# Altium schematic symbol library Schlib1.SchLib: 17 symbols
Pins are listed as number, name and electrical type; pins without a type are passive.

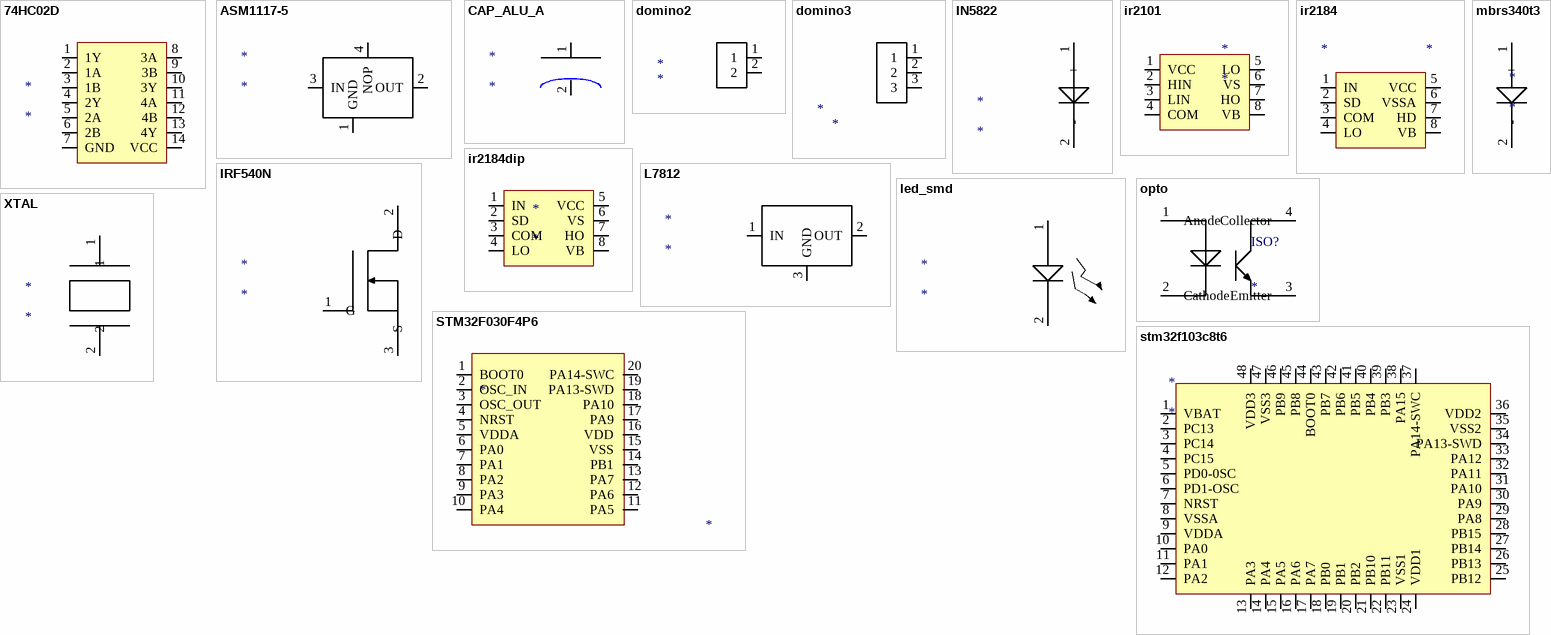
[diagram p0: symbols 74HC02D to XTAL]

## 74HC02D
designator *
footprint SOP14_Nor gate
pins: 1 1Y, 2 1A, 3 1B, 4 2Y, 5 2A, 6 2B, 7 GND, 8 3A, 9 3B, 10 3Y, 11 4A, 12 4B, 13 4Y, 14 VCC

## ASM1117-5
designator *
footprint SOT223 (SOT223, 4-Leads, Body 6.50x7.00mm (avg), Pitch 2.30mm, IPC Medium Density)
pins: 1 GND, 2 OUT, 3 IN, 4 NOP

## CAP_ALU_A
designator *
footprint cap_alu_a (Aluminum Electrolytic Capacitor, Body 3.30x3.30x29.00mm, IPC Low Density)
pins: 1 +, 2 -

## domino2
designator *
footprint Domino_2
pins: 1, 2

## domino3
designator *
footprint Domino_3
pins: 1, 2, 3

## IN5822
designator *
footprint schottky diode
pins: 1 +, 2 -

## ir2101
designator *
footprint ir2101
pins: 1 VCC, 2 HIN, 3 LIN, 4 COM, 5 LO, 6 VS, 7 HO, 8 VB

## ir2184
designator *
footprint SOP8_ir2184
pins: 1 IN, 2 SD, 3 COM, 4 LO, 5 VCC, 6 VSSA, 7 HD, 8 VB

## ir2184dip
designator *
footprint ir2101
pins: 1 IN, 2 SD, 3 COM, 4 LO, 5 VCC, 6 VS, 7 HO, 8 VB

## IRF540N
designator *
footprint TO220
pins: 1 G, 2 D, 3 S

## L7812
designator *
footprint TO220
pins: 1 IN, 2 OUT, 3 GND

## led_smd
designator *
footprint led_smd
pins: 1, 2

## mbrs340t3
designator *
footprint diode mbrs34ot3 (Chip Diode, 2-Leads, Body 7,94x5,84mm, IPC Medium Density)
pins: 1 +, 2 -

## opto
designator ISO?
footprint opto_smd
pins: 1 Anode, 2 Cathode, 3 Emitter, 4 Collector

## STM32F030F4P6
designator *
footprint TSSOP20_STM32 (TSOP, 20-Leads, Body 6.50x4.40mm, Pitch 0.65mm, IPC Medium Density)
pins: 1 BOOT0, 2 OSC_IN, 3 OSC_OUT, 4 NRST, 5 VDDA, 6 PA0, 7 PA1, 8 PA2, 9 PA3, 10 PA4, 11 PA5, 12 PA6, 13 PA7, 14 PB1, 15 VSS, 16 VDD, 17 PA9, 18 PA10, 19 PA13-SWD, 20 PA14-SWC

## stm32f103c8t6
designator *
footprint LQFP48_stm32 (TSQFP, 48-Leads, Body 7.00x7.00mm, Pitch 0.50mm, IPC Medium Density)
pins: 1 VBAT, 2 PC13, 3 PC14, 4 PC15, 5 PD0-0SC, 6 PD1-OSC, 7 NRST, 8 VSSA, 9 VDDA, 10 PA0, 11 PA1, 12 PA2, 13 PA3, 14 PA4, 15 PA5, 16 PA6, 17 PA7, 18 PB0, 19 PB1, 20 PB2, 21 PB10, 22 PB11, 23 VSS1, 24 VDD1, 25 PB12, 26 PB13, 27 PB14, 28 PB15, 29 PA8, 30 PA9, 31 PA10, 32 PA11, 33 PA12, 34 PA13-SWD, 35 VSS2, 36 VDD2, 37 PA14-SWC, 38 PA15, 39 PB3, 40 PB4, 41 PB5, 42 PB6, 43 PB7, 44 BOOT0, 45 PB8, 46 PB9, 47 VSS3, 48 VDD3

## XTAL
designator *
footprint xtal_smd
pins: 1, 2